# Altium integrated library NXP Semiconductors Automotive MOSFETs.IntLib: 540 symbols (part 15 of 16)
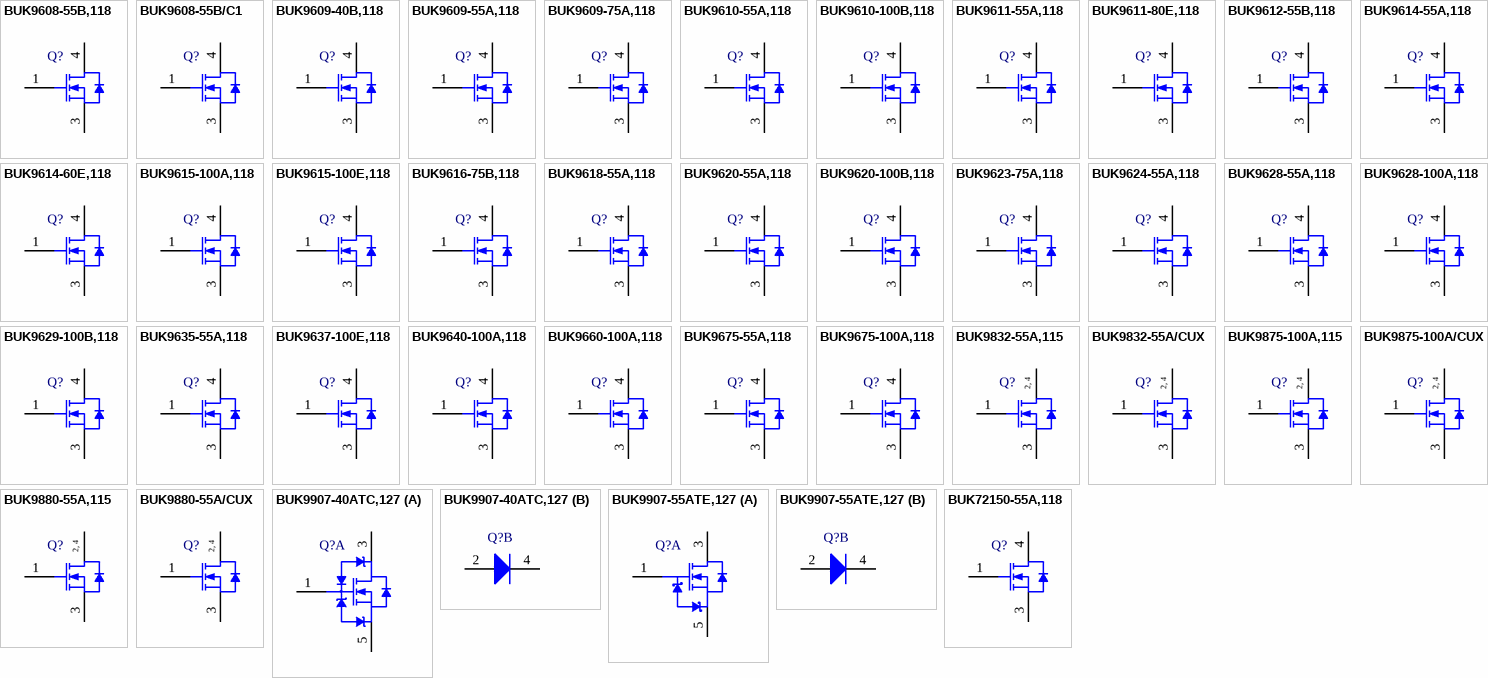
[diagram p28: symbols BUK9608-55B,118 to BUK72150-55A,118]

## BUK9675-100A,118
designator Q?
N-Channel TrenchMOS Logic Level FET, 100 V, 23 A, 3-Pin SOT404, Tape and Reel; Manufacturer: NXP Semiconductors; PartNumber: BUK9675-100A,118; Automotive Qualified: Y; Channel Type: N; ID [max] (A): 23; IDM [max] (A): 91; Packing: Tape & Reel; Qr [typ] (nC): 220; VDS [max] (V): 100; VGSth [typ] (V): 1.5; DatasheetVersion: Rev. 04; PackageVersion: 13-02-25, 02/2013; PackageReference: SOT404; PackageDescription: 3-Pin Plastic Single-ended Surface Mounted Package, Body 10 x 9.6 mm, Pitch 2.54 mm; Supplier 1: Digi-Key; Supplier Part Number 1: 568-9688-2-ND; Supplier 2: Digi-Key; Supplier Part Number 2: 568-9688-1-ND; Supplier 3: Digi-Key; Supplier Part Number 3: 568-9688-6-ND; Supplier 4: Mouser; Supplier Part Number 4: 771-BUK9675-100A118; Mounting Technology: Surface Mount; ComponentLink1Description: Manufacturer URL; ComponentLink1URL: http://www.nxp.com/; ComponentLink2Description: Datasheet; ComponentLink2URL: http://www.nxp.com/documents/data_sheet/BUK9675-100A.pdf; ComponentLink3Description: Package Specification; ComponentLink3URL: http://www.nxp.com/documents/outline_drawing/sot404_po.pdf
footprint NXP-SOT404_N (DPAK, 3-Leads, Body 10.3x9.8mm, Pitch 2.54mm, IPC Medium Density)
footprint NXP-SOT404_L (DPAK, 3-Leads, Body 10.3x9.8mm, Pitch 2.54mm, IPC High Density)
footprint NXP-SOT404_M (DPAK, 3-Leads, Body 10.3x9.8mm, Pitch 2.54mm, IPC Low Density)
pins: 1 G "gate", 3 S "source", 4 D "mounting base; connected to drain"

## BUK9832-55A,115
designator Q?
N-Channel TrenchMOS Logic Level FET, 55 V, 12 A, 4-Pin SOT223, Tape and Reel; Manufacturer: NXP Semiconductors; PartNumber: BUK9832-55A,115; Automotive Qualified: Y; Channel Type: N; ID [max] (A): 12; IDM [max] (A): 47; Packing: Tape & Reel; Qr [typ] (nC): 80; VDS [max] (V): 55; VGSth [typ] (V): 1.5; DatasheetVersion: Rev. 02; PackageVersion: 06-03-16, 03/2006; PackageReference: SOT223; PackageDescription: 4-Pin Small Outline Transistor Package, Body 6.5 x 3.5 mm, Pitch 2.3 mm; Supplier 1: Digi-Key; Supplier Part Number 1: 568-8032-2-ND; Supplier 2: Digi-Key; Supplier Part Number 2: 568-8032-1-ND; Supplier 3: Digi-Key; Supplier Part Number 3: 568-8032-6-ND; Supplier 4: Newark; Supplier Part Number 4: 79R1863; Supplier 5: Newark; Supplier Part Number 5: 70R3625; Supplier 6: Mouser; Supplier Part Number 6: 771-BUK9832-55A115; Mounting Technology: Surface Mount; Code_JEITA: SC-73; ComponentLink1Description: Manufacturer URL; ComponentLink1URL: http://www.nxp.com/; ComponentLink2Description: Datasheet; ComponentLink2URL: http://www.nxp.com/documents/data_sheet/BUK9832-55A.pdf; ComponentLink3Description: Package Specification; ComponentLink3URL: http://www.nxp.com/documents/outline_drawing/sot223_po.pdf
footprint NXP-SOT223_N (SOT223, 4-Leads, Body 6.7x3.7mm, Pitch 2.3mm, IPC Medium Density)
footprint NXP-SOT223_L (SOT223, 4-Leads, Body 6.7x3.7mm, Pitch 2.3mm, IPC High Density)
footprint NXP-SOT223_M (SOT223, 4-Leads, Body 6.7x3.7mm, Pitch 2.3mm, IPC Low Density)
pins: 1 G "gate", 2 D "drain", 3 S "source", 4 D "drain"
text: 2, 4

## BUK9832-55A/CUX
designator Q?
N-Channel TrenchMOS Logic Level FET, 55 V, 12 A, 4-Pin SOT223, Tape and Reel; Manufacturer: NXP Semiconductors; PartNumber: BUK9832-55A/CUX; Automotive Qualified: Y; Channel Type: N; ID [max] (A): 12; IDM [max] (A): 47; Packing: Tape & Reel; Qr [typ] (nC): 80; VDS [max] (V): 55; VGSth [typ] (V): 1.5; DatasheetVersion: Rev. 02; PackageVersion: 06-03-16, 03/2006; PackageReference: SOT223; PackageDescription: 4-Pin Small Outline Transistor Package, Body 6.5 x 3.5 mm, Pitch 2.3 mm; Supplier 1: Mouser; Supplier Part Number 1: N/A; Mounting Technology: Surface Mount; Code_JEITA: SC-73; ComponentLink1Description: Manufacturer URL; ComponentLink1URL: http://www.nxp.com/; ComponentLink2Description: Datasheet; ComponentLink2URL: http://www.nxp.com/documents/data_sheet/BUK9832-55A.pdf; ComponentLink3Description: Package Specification; ComponentLink3URL: http://www.nxp.com/documents/outline_drawing/sot223_po.pdf
footprint NXP-SOT223_N (SOT223, 4-Leads, Body 6.7x3.7mm, Pitch 2.3mm, IPC Medium Density)
footprint NXP-SOT223_L (SOT223, 4-Leads, Body 6.7x3.7mm, Pitch 2.3mm, IPC High Density)
footprint NXP-SOT223_M (SOT223, 4-Leads, Body 6.7x3.7mm, Pitch 2.3mm, IPC Low Density)
pins: 1 G "gate", 2 D "drain", 3 S "source", 4 D "drain"
text: 2, 4

## BUK9875-100A,115
designator Q?
N-Channel TrenchMOS Logic Level FET, 100 V, 7 A, 4-Pin SOT223, Tape and Reel; Manufacturer: NXP Semiconductors; PartNumber: BUK9875-100A,115; Automotive Qualified: Y; Channel Type: N; ID [max] (A): 7; IDM [max] (A): 28; Packing: Tape & Reel; Qr [typ] (nC): 220; VDS [max] (V): 100; VGSth [typ] (V): 1.5; PackageVersion: 06-03-16, 03/2006; PackageReference: SOT223; PackageDescription: 4-Pin Small Outline Transistor Package, Body 6.5 x 3.5 mm, Pitch 2.3 mm; Supplier 1: Digi-Key; Supplier Part Number 1: 568-8033-2-ND; Supplier 2: Digi-Key; Supplier Part Number 2: 568-8033-1-ND; Supplier 3: Digi-Key; Supplier Part Number 3: 568-8033-6-ND; Supplier 4: Newark; Supplier Part Number 4: 70R3627; Supplier 5: Newark; Supplier Part Number 5: 75R4725; Supplier 6: Mouser; Supplier Part Number 6: 771-BUK9875-100A115; Mounting Technology: Surface Mount; Code_JEITA: SC-73; ComponentLink1Description: Manufacturer URL; ComponentLink1URL: http://www.nxp.com/; ComponentLink2Description: Datasheet; ComponentLink2URL: http://www.nxp.com/documents/data_sheet/BUK9875-100A.pdf; ComponentLink3Description: Package Specification; ComponentLink3URL: http://www.nxp.com/documents/outline_drawing/sot223_po.pdf
footprint NXP-SOT223_N (SOT223, 4-Leads, Body 6.7x3.7mm, Pitch 2.3mm, IPC Medium Density)
footprint NXP-SOT223_L (SOT223, 4-Leads, Body 6.7x3.7mm, Pitch 2.3mm, IPC High Density)
footprint NXP-SOT223_M (SOT223, 4-Leads, Body 6.7x3.7mm, Pitch 2.3mm, IPC Low Density)
pins: 1 G "gate", 2 D "drain", 3 S "source", 4 D "drain"
text: 2, 4

## BUK9875-100A/CUX
designator Q?
N-Channel TrenchMOS Logic Level FET, 100 V, 7 A, 4-Pin SOT223, Tape and Reel; Manufacturer: NXP Semiconductors; PartNumber: BUK9875-100A/CUX; Automotive Qualified: Y; Channel Type: N; ID [max] (A): 7; IDM [max] (A): 28; Packing: Tape & Reel; Qr [typ] (nC): 220; VDS [max] (V): 100; VGSth [typ] (V): 1.5; PackageVersion: 06-03-16, 03/2006; PackageReference: SOT223; PackageDescription: 4-Pin Small Outline Transistor Package, Body 6.5 x 3.5 mm, Pitch 2.3 mm; Supplier 1: Mouser; Supplier Part Number 1: N/A; Mounting Technology: Surface Mount; Code_JEITA: SC-73; ComponentLink1Description: Manufacturer URL; ComponentLink1URL: http://www.nxp.com/; ComponentLink2Description: Datasheet; ComponentLink2URL: http://www.nxp.com/documents/data_sheet/BUK9875-100A.pdf; ComponentLink3Description: Package Specification; ComponentLink3URL: http://www.nxp.com/documents/outline_drawing/sot223_po.pdf
footprint NXP-SOT223_N (SOT223, 4-Leads, Body 6.7x3.7mm, Pitch 2.3mm, IPC Medium Density)
footprint NXP-SOT223_L (SOT223, 4-Leads, Body 6.7x3.7mm, Pitch 2.3mm, IPC High Density)
footprint NXP-SOT223_M (SOT223, 4-Leads, Body 6.7x3.7mm, Pitch 2.3mm, IPC Low Density)
pins: 1 G "gate", 2 D "drain", 3 S "source", 4 D "drain"
text: 2, 4

## BUK9880-55A,115
designator Q?
N-Channel TrenchMOS Logic Level FET, 55 V, 7 A, 4-Pin SOT223, Tape and Reel; Manufacturer: NXP Semiconductors; PartNumber: BUK9880-55A,115; Automotive Qualified: Y; Channel Type: N; ID [max] (A): 7; IDM [max] (A): 30; Packing: Tape & Reel; Qr [typ] (nC): 60; VDS [max] (V): 55; VGSth [typ] (V): 1.5; PackageVersion: 06-03-16, 03/2006; PackageReference: SOT223; PackageDescription: 4-Pin Small Outline Transistor Package, Body 6.5 x 3.5 mm, Pitch 2.3 mm; Supplier 1: Digi-Key; Supplier Part Number 1: 568-9715-2-ND; Supplier 2: Digi-Key; Supplier Part Number 2: 568-9715-1-ND; Supplier 3: Digi-Key; Supplier Part Number 3: 568-9715-6-ND; Supplier 4: Newark; Supplier Part Number 4: 70R3629; Supplier 5: Newark; Supplier Part Number 5: 79R1865; Supplier 6: Mouser; Supplier Part Number 6: 771-BUK9880-55A115; Mounting Technology: Surface Mount; Code_JEITA: SC-73; ComponentLink1Description: Manufacturer URL; ComponentLink1URL: http://www.nxp.com/; ComponentLink2Description: Datasheet; ComponentLink2URL: http://www.nxp.com/documents/data_sheet/BUK9880-55A.pdf; ComponentLink3Description: Package Specification; ComponentLink3URL: http://www.nxp.com/documents/outline_drawing/sot223_po.pdf
footprint NXP-SOT223_N (SOT223, 4-Leads, Body 6.7x3.7mm, Pitch 2.3mm, IPC Medium Density)
footprint NXP-SOT223_L (SOT223, 4-Leads, Body 6.7x3.7mm, Pitch 2.3mm, IPC High Density)
footprint NXP-SOT223_M (SOT223, 4-Leads, Body 6.7x3.7mm, Pitch 2.3mm, IPC Low Density)
pins: 1 G "gate", 2 D "drain", 3 S "source", 4 D "drain"
text: 2, 4

## BUK9880-55A/CUX
designator Q?
N-Channel TrenchMOS Logic Level FET, 55 V, 7 A, 4-Pin SOT223, Tape and Reel; Manufacturer: NXP Semiconductors; PartNumber: BUK9880-55A/CUX; Automotive Qualified: Y; Channel Type: N; ID [max] (A): 7; IDM [max] (A): 30; Packing: Tape & Reel; Qr [typ] (nC): 60; VDS [max] (V): 55; VGSth [typ] (V): 1.5; PackageVersion: 06-03-16, 03/2006; PackageReference: SOT223; PackageDescription: 4-Pin Small Outline Transistor Package, Body 6.5 x 3.5 mm, Pitch 2.3 mm; Supplier 1: Mouser; Supplier Part Number 1: N/A; Mounting Technology: Surface Mount; Code_JEITA: SC-73; ComponentLink1Description: Manufacturer URL; ComponentLink1URL: http://www.nxp.com/; ComponentLink2Description: Datasheet; ComponentLink2URL: http://www.nxp.com/documents/data_sheet/BUK9880-55A.pdf; ComponentLink3Description: Package Specification; ComponentLink3URL: http://www.nxp.com/documents/outline_drawing/sot223_po.pdf
footprint NXP-SOT223_N (SOT223, 4-Leads, Body 6.7x3.7mm, Pitch 2.3mm, IPC Medium Density)
footprint NXP-SOT223_L (SOT223, 4-Leads, Body 6.7x3.7mm, Pitch 2.3mm, IPC High Density)
footprint NXP-SOT223_M (SOT223, 4-Leads, Body 6.7x3.7mm, Pitch 2.3mm, IPC Low Density)
pins: 1 G "gate", 2 D "drain", 3 S "source", 4 D "drain"
text: 2, 4

## BUK9907-40ATC,127
designator Q?
N-Channel TrenchPLUS Logic Level FET, 40 V, 5-Pin SOT263B, Rail; Manufacturer: NXP Semiconductors; PartNumber: BUK9907-40ATC,127; Automotive Qualified: Y; Channel Type: N; IDM [max] (A): 560; Qr [typ] (nC): 250; VDS [max] (V): 40; VGSth [typ] (V): 1.5; DatasheetVersion: Rev. 02; PackageVersion: 01-01-11, 01/2001; PackageReference: SOT263B; PackageDescription: 5-Pin Flange Mount, Vertical Straight Lead, Body 4.3 x 10 mm, Pitch 1.7 mm; Supplier 1: Digi-Key; Supplier Part Number 1: 568-9750-5-ND; Supplier 2: Mouser; Supplier Part Number 2: 771-BUK9907-40ATC127; Packing: Rail; Mounting Technology: Through Hole; Code_JEDEC: 5-lead TO-220; ComponentLink1Description: Manufacturer URL; ComponentLink1URL: http://www.nxp.com/; ComponentLink2Description: Datasheet; ComponentLink2URL: http://www.nxp.com/documents/data_sheet/BUK9907-40ATC.pdf; ComponentLink3Description: Package Specification; ComponentLink3URL: http://www.nxp.com/documents/outline_drawing/sot263b_po.pdf
footprint NXP-SOT263B (FM, 5-Leads, Body 10.3x4.5mm, Pitch 1.7mm)
part A pins: 1 G "gate", 3 D "drain", 5 S "source"
part B pins: 2 A "anode", 4 K "cathode"

## BUK9907-55ATE,127
designator Q?
N-Channel TrenchPLUS Logic Level FET, 55 V, 5-Pin SOT263B, Rail; Manufacturer: NXP Semiconductors; PartNumber: BUK9907-55ATE,127; Automotive Qualified: Y; Channel Type: N; IDM [max] (A): 560; Qr [typ] (nC): 250; VDS [max] (V): 55; VGSth [typ] (V): 1.5; DatasheetVersion: Rev. 02; PackageVersion: 01-01-11, 01/2001; PackageReference: SOT263B; PackageDescription: 5-Pin Flange Mount, Vertical Straight Lead, Body 4.3 x 10 mm, Pitch 1.7 mm; Supplier 1: Digi-Key; Supplier Part Number 1: 568-9761-5-ND; Supplier 2: Mouser; Supplier Part Number 2: 771-BUK9907-55ATE127; Packing: Rail; Mounting Technology: Through Hole; Code_JEDEC: 5-lead TO-220; ComponentLink1Description: Manufacturer URL; ComponentLink1URL: http://www.nxp.com/; ComponentLink2Description: Datasheet; ComponentLink2URL: http://www.nxp.com/documents/data_sheet/BUK9907-55ATE.pdf; ComponentLink3Description: Package Specification; ComponentLink3URL: http://www.nxp.com/documents/outline_drawing/sot263b_po.pdf
footprint NXP-SOT263B (FM, 5-Leads, Body 10.3x4.5mm, Pitch 1.7mm)
part A pins: 1 G "gate", 3 D "drain", 5 S "source"
part B pins: 2 A "anode", 4 K "cathode"

## BUK72150-55A,118
designator Q?
N-Channel TrenchMOS Standard Level FET, 55 V, 11 A, 3-Pin SOT428, Tape and Reel; Manufacturer: NXP Semiconductors; PartNumber: BUK72150-55A,118; Automotive Qualified: Y; Channel Type: N; ID [max] (A): 11; IDM [max] (A): 44; Packing: Tape & Reel; Qr [typ] (nC): 50; VDS [max] (V): 55; VGSth [typ] (V): 3; DatasheetVersion: Rev. 03; PackageVersion: 14-06-10, 06/2014; PackageReference: SOT428; PackageDescription: 3-Pin Plastic Single-ended Surface Mounted Package, Body 6.1 x 6.6 mm, Pitch 2.285 mm; Supplier 1: Digi-Key; Supplier Part Number 1: 568-9634-2-ND; Supplier 2: Digi-Key; Supplier Part Number 2: 568-9634-1-ND; Supplier 3: Digi-Key; Supplier Part Number 3: 568-9634-6-ND; Supplier 4: Mouser; Supplier Part Number 4: 771-BUK72150-55A118; Mounting Technology: Surface Mount; Code_JEITA: SC-63; Code_JEDEC: TO-252; ComponentLink1Description: Manufacturer URL; ComponentLink1URL: http://www.nxp.com/; ComponentLink2Description: Datasheet; ComponentLink2URL: http://www.nxp.com/documents/data_sheet/BUK72150-55A.pdf; ComponentLink3Description: Package Specification; ComponentLink3URL: http://www.nxp.com/documents/outline_drawing/sot428_po.pdf
footprint NXP-SOT428_N (DPAK, 3-Leads, Body 6.75x6.22mm, Pitch 2.29mm, IPC Medium Density)
footprint NXP-SOT428_L (DPAK, 3-Leads, Body 6.75x6.22mm, Pitch 2.29mm, IPC High Density)
footprint NXP-SOT428_M (DPAK, 3-Leads, Body 6.75x6.22mm, Pitch 2.29mm, IPC Low Density)
pins: 1 G "gate", 3 S "source", 4 D "mounting base; connected to drain"

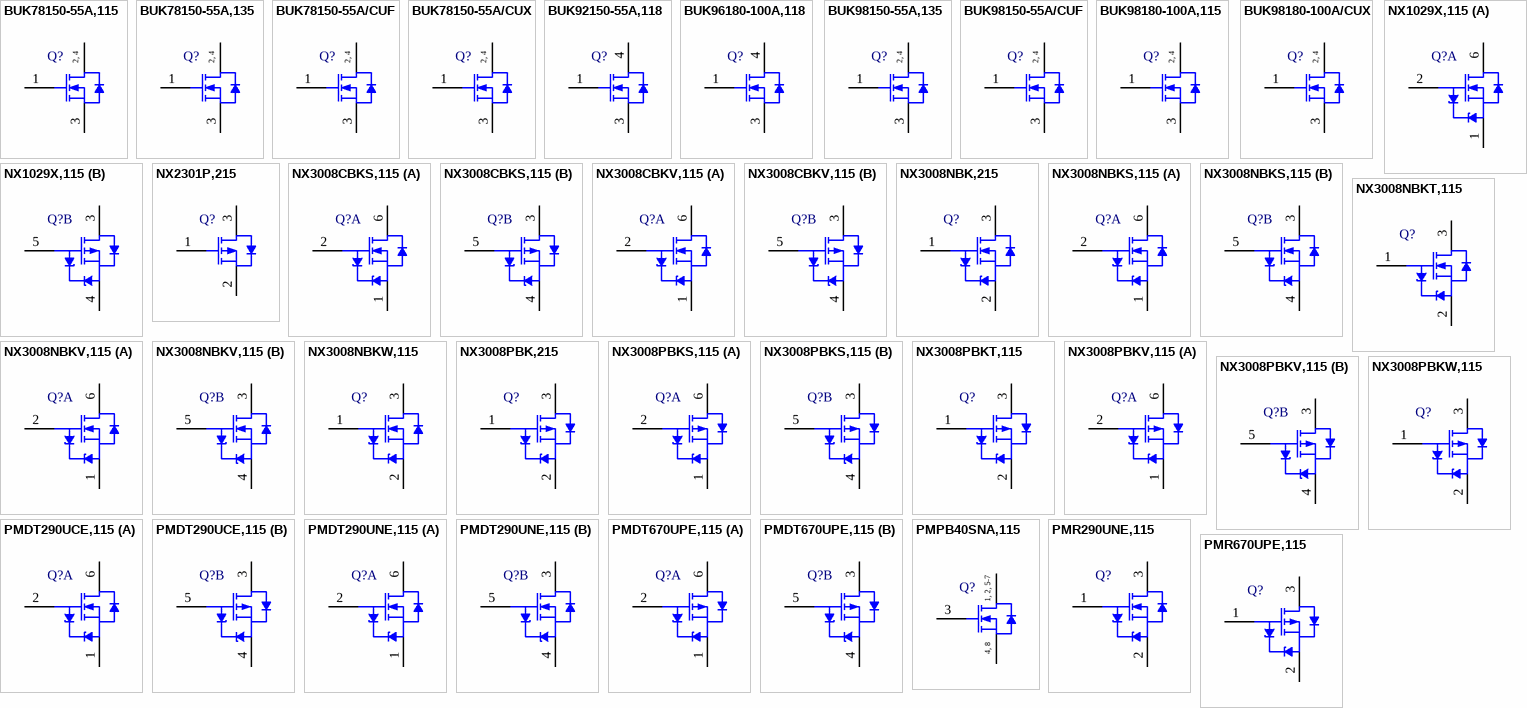
[diagram p14: symbols BUK78150-55A,115 to PMR670UPE,115]

## BUK78150-55A,115
designator Q?
N-Channel TrenchMOS Standard Level FET, 55 V, 5.5 A, 4-Pin SOT223, Tape and Reel; Manufacturer: NXP Semiconductors; PartNumber: BUK78150-55A,115; Automotive Qualified: Y; Channel Type: N; ID [max] (A): 5.5; IDM [max] (A): 22; Packing: Tape & Reel; Qr [typ] (nC): 50; VDS [max] (V): 55; VGSth [typ] (V): 3; DatasheetVersion: Rev. 02; PackageVersion: 06-03-16, 03/2006; PackageReference: SOT223; PackageDescription: 4-Pin Small Outline Transistor Package, Body 6.5 x 3.5 mm, Pitch 2.3 mm; Supplier 1: Digi-Key; Supplier Part Number 1: 568-9711-2-ND; Supplier 2: Digi-Key; Supplier Part Number 2: 568-9711-1-ND; Supplier 3: Digi-Key; Supplier Part Number 3: 568-9711-6-ND; Supplier 4: Newark; Supplier Part Number 4: 79R1850; Supplier 5: Mouser; Supplier Part Number 5: 771-BUK78150-55A115; Mounting Technology: Surface Mount; Code_JEITA: SC-73; ComponentLink1Description: Manufacturer URL; ComponentLink1URL: http://www.nxp.com/; ComponentLink2Description: Datasheet; ComponentLink2URL: http://www.nxp.com/documents/data_sheet/BUK78150-55A.pdf; ComponentLink3Description: Package Specification; ComponentLink3URL: http://www.nxp.com/documents/outline_drawing/sot223_po.pdf
footprint NXP-SOT223_N (SOT223, 4-Leads, Body 6.7x3.7mm, Pitch 2.3mm, IPC Medium Density)
footprint NXP-SOT223_L (SOT223, 4-Leads, Body 6.7x3.7mm, Pitch 2.3mm, IPC High Density)
footprint NXP-SOT223_M (SOT223, 4-Leads, Body 6.7x3.7mm, Pitch 2.3mm, IPC Low Density)
pins: 1 G "gate", 2 D "drain", 3 S "source", 4 D "drain"
text: 2, 4

## BUK78150-55A,135
designator Q?
N-Channel TrenchMOS Standard Level FET, 55 V, 5.5 A, 4-Pin SOT223, Tape and Reel; Manufacturer: NXP Semiconductors; PartNumber: BUK78150-55A,135; Automotive Qualified: Y; Channel Type: N; ID [max] (A): 5.5; IDM [max] (A): 22; Packing: Tape & Reel; Qr [typ] (nC): 50; VDS [max] (V): 55; VGSth [typ] (V): 3; DatasheetVersion: Rev. 02; PackageVersion: 06-03-16, 03/2006; PackageReference: SOT223; PackageDescription: 4-Pin Small Outline Transistor Package, Body 6.5 x 3.5 mm, Pitch 2.3 mm; Supplier 1: Digi-Key; Supplier Part Number 1: BUK78150-55A,135-ND; Supplier 2: Mouser; Supplier Part Number 2: 771-BUK78150-55A135; Mounting Technology: Surface Mount; Code_JEITA: SC-73; ComponentLink1Description: Manufacturer URL; ComponentLink1URL: http://www.nxp.com/; ComponentLink2Description: Datasheet; ComponentLink2URL: http://www.nxp.com/documents/data_sheet/BUK78150-55A.pdf; ComponentLink3Description: Package Specification; ComponentLink3URL: http://www.nxp.com/documents/outline_drawing/sot223_po.pdf
footprint NXP-SOT223_N (SOT223, 4-Leads, Body 6.7x3.7mm, Pitch 2.3mm, IPC Medium Density)
footprint NXP-SOT223_L (SOT223, 4-Leads, Body 6.7x3.7mm, Pitch 2.3mm, IPC High Density)
footprint NXP-SOT223_M (SOT223, 4-Leads, Body 6.7x3.7mm, Pitch 2.3mm, IPC Low Density)
pins: 1 G "gate", 2 D "drain", 3 S "source", 4 D "drain"
text: 2, 4

## BUK78150-55A/CUF
designator Q?
N-Channel TrenchMOS Standard Level FET, 55 V, 5.5 A, 4-Pin SOT223, Tape and Reel; Manufacturer: NXP Semiconductors; PartNumber: BUK78150-55A/CUF; Automotive Qualified: Y; Channel Type: N; ID [max] (A): 5.5; IDM [max] (A): 22; Packing: Tape & Reel; Qr [typ] (nC): 50; VDS [max] (V): 55; VGSth [typ] (V): 3; DatasheetVersion: Rev. 02; PackageVersion: 06-03-16, 03/2006; PackageReference: SOT223; PackageDescription: 4-Pin Small Outline Transistor Package, Body 6.5 x 3.5 mm, Pitch 2.3 mm; Supplier 1: Mouser; Supplier Part Number 1: N/A; Mounting Technology: Surface Mount; Code_JEITA: SC-73; ComponentLink1Description: Manufacturer URL; ComponentLink1URL: http://www.nxp.com/; ComponentLink2Description: Datasheet; ComponentLink2URL: http://www.nxp.com/documents/data_sheet/BUK78150-55A.pdf; ComponentLink3Description: Package Specification; ComponentLink3URL: http://www.nxp.com/documents/outline_drawing/sot223_po.pdf
footprint NXP-SOT223_N (SOT223, 4-Leads, Body 6.7x3.7mm, Pitch 2.3mm, IPC Medium Density)
footprint NXP-SOT223_L (SOT223, 4-Leads, Body 6.7x3.7mm, Pitch 2.3mm, IPC High Density)
footprint NXP-SOT223_M (SOT223, 4-Leads, Body 6.7x3.7mm, Pitch 2.3mm, IPC Low Density)
pins: 1 G "gate", 2 D "drain", 3 S "source", 4 D "drain"
text: 2, 4

## BUK78150-55A/CUX
designator Q?
N-Channel TrenchMOS Standard Level FET, 55 V, 5.5 A, 4-Pin SOT223, Tape and Reel; Manufacturer: NXP Semiconductors; PartNumber: BUK78150-55A/CUX; Automotive Qualified: Y; Channel Type: N; ID [max] (A): 5.5; IDM [max] (A): 22; Packing: Tape & Reel; Qr [typ] (nC): 50; VDS [max] (V): 55; VGSth [typ] (V): 3; DatasheetVersion: Rev. 02; PackageVersion: 06-03-16, 03/2006; PackageReference: SOT223; PackageDescription: 4-Pin Small Outline Transistor Package, Body 6.5 x 3.5 mm, Pitch 2.3 mm; Supplier 1: Mouser; Supplier Part Number 1: N/A; Mounting Technology: Surface Mount; Code_JEITA: SC-73; ComponentLink1Description: Manufacturer URL; ComponentLink1URL: http://www.nxp.com/; ComponentLink2Description: Datasheet; ComponentLink2URL: http://www.nxp.com/documents/data_sheet/BUK78150-55A.pdf; ComponentLink3Description: Package Specification; ComponentLink3URL: http://www.nxp.com/documents/outline_drawing/sot223_po.pdf
footprint NXP-SOT223_N (SOT223, 4-Leads, Body 6.7x3.7mm, Pitch 2.3mm, IPC Medium Density)
footprint NXP-SOT223_L (SOT223, 4-Leads, Body 6.7x3.7mm, Pitch 2.3mm, IPC High Density)
footprint NXP-SOT223_M (SOT223, 4-Leads, Body 6.7x3.7mm, Pitch 2.3mm, IPC Low Density)
pins: 1 G "gate", 2 D "drain", 3 S "source", 4 D "drain"
text: 2, 4

## BUK92150-55A,118
designator Q?
N-Channel TrenchMOS Logic Level FET, 55 V, 11 A, 3-Pin SOT428, Tape and Reel; Manufacturer: NXP Semiconductors; PartNumber: BUK92150-55A,118; Automotive Qualified: Y; Channel Type: N; ID [max] (A): 11; IDM [max] (A): 44; Packing: Tape & Reel; Qr [typ] (nC): 26; VDS [max] (V): 55; VGSth [typ] (V): 1.5; PackageVersion: 14-06-10, 06/2014; PackageReference: SOT428; PackageDescription: 3-Pin Plastic Single-ended Surface Mounted Package, Body 6.1 x 6.6 mm, Pitch 2.285 mm; Supplier 1: Digi-Key; Supplier Part Number 1: 568-4281-2-ND; Supplier 2: Digi-Key; Supplier Part Number 2: 568-4281-1-ND; Supplier 3: Digi-Key; Supplier Part Number 3: 568-4281-6-ND; Supplier 4: Newark; Supplier Part Number 4: 70R3535; Supplier 5: Mouser; Supplier Part Number 5: 771-BUK92150-55A118; Mounting Technology: Surface Mount; Code_JEITA: SC-63; Code_JEDEC: TO-252; ComponentLink1Description: Manufacturer URL; ComponentLink1URL: http://www.nxp.com/; ComponentLink2Description: Datasheet; ComponentLink2URL: http://www.nxp.com/documents/data_sheet/BUK92150-55A.pdf; ComponentLink3Description: Package Specification; ComponentLink3URL: http://www.nxp.com/documents/outline_drawing/sot428_po.pdf
footprint NXP-SOT428_N (DPAK, 3-Leads, Body 6.75x6.22mm, Pitch 2.29mm, IPC Medium Density)
footprint NXP-SOT428_L (DPAK, 3-Leads, Body 6.75x6.22mm, Pitch 2.29mm, IPC High Density)
footprint NXP-SOT428_M (DPAK, 3-Leads, Body 6.75x6.22mm, Pitch 2.29mm, IPC Low Density)
pins: 1 G "gate", 3 S "source", 4 D "mounting base; connected to drain"

## BUK96180-100A,118
designator Q?
N-Channel TrenchMOS Logic Level FET, 100 V, 11 A, 3-Pin SOT404, Tape and Reel; Manufacturer: NXP Semiconductors; PartNumber: BUK96180-100A,118; Automotive Qualified: Y; Channel Type: N; ID [max] (A): 11; IDM [max] (A): 44; Packing: Tape & Reel; Qr [typ] (nC): 130; VDS [max] (V): 100; VGSth [typ] (V): 1.5; DatasheetVersion: Rev. 02; PackageVersion: 13-02-25, 02/2013; PackageReference: SOT404; PackageDescription: 3-Pin Plastic Single-ended Surface Mounted Package, Body 10 x 9.6 mm, Pitch 2.54 mm; Supplier 1: Digi-Key; Supplier Part Number 1: 568-9680-2-ND; Supplier 2: Digi-Key; Supplier Part Number 2: 568-9680-1-ND; Supplier 3: Digi-Key; Supplier Part Number 3: 568-9680-6-ND; Supplier 4: Newark; Supplier Part Number 4: 79R1860; Supplier 5: Mouser; Supplier Part Number 5: 771-BUK96180-100A118; Mounting Technology: Surface Mount; ComponentLink1Description: Manufacturer URL; ComponentLink1URL: http://www.nxp.com/; ComponentLink2Description: Datasheet; ComponentLink2URL: http://www.nxp.com/documents/data_sheet/BUK96180-100A.pdf; ComponentLink3Description: Package Specification; ComponentLink3URL: http://www.nxp.com/documents/outline_drawing/sot404_po.pdf
footprint NXP-SOT404_N (DPAK, 3-Leads, Body 10.3x9.8mm, Pitch 2.54mm, IPC Medium Density)
footprint NXP-SOT404_L (DPAK, 3-Leads, Body 10.3x9.8mm, Pitch 2.54mm, IPC High Density)
footprint NXP-SOT404_M (DPAK, 3-Leads, Body 10.3x9.8mm, Pitch 2.54mm, IPC Low Density)
pins: 1 G "gate", 3 S "source", 4 D "mounting base; connected to drain"

## BUK98150-55A,135
designator Q?
N-Channel TrenchMOS Logic Level FET, 55 V, 5.5 A, 4-Pin SOT223, Tape and Reel; Manufacturer: NXP Semiconductors; PartNumber: BUK98150-55A,135; Automotive Qualified: Y; Channel Type: N; ID [max] (A): 5.5; IDM [max] (A): 22; Packing: Tape & Reel; Qr [typ] (nC): 30; VDS [max] (V): 55; VGSth [typ] (V): 1.5; PackageVersion: 06-03-16, 03/2006; PackageReference: SOT223; PackageDescription: 4-Pin Small Outline Transistor Package, Body 6.5 x 3.5 mm, Pitch 2.3 mm; Supplier 1: Digi-Key; Supplier Part Number 1: 568-8212-2-ND; Supplier 2: Digi-Key; Supplier Part Number 2: 568-8212-1-ND; Supplier 3: Digi-Key; Supplier Part Number 3: 568-8212-6-ND; Supplier 4: Farnell; Supplier Part Number 4: 2081172; Supplier 5: Newark; Supplier Part Number 5: 75R4724; Supplier 6: Mouser; Supplier Part Number 6: 771-BUK98150-55A/T3; Mounting Technology: Surface Mount; Code_JEITA: SC-73; ComponentLink1Description: Manufacturer URL; ComponentLink1URL: http://www.nxp.com/; ComponentLink2Description: Datasheet; ComponentLink2URL: http://www.nxp.com/documents/data_sheet/BUK98150-55A.pdf; ComponentLink3Description: Package Specification; ComponentLink3URL: http://www.nxp.com/documents/outline_drawing/sot223_po.pdf
footprint NXP-SOT223_N (SOT223, 4-Leads, Body 6.7x3.7mm, Pitch 2.3mm, IPC Medium Density)
footprint NXP-SOT223_L (SOT223, 4-Leads, Body 6.7x3.7mm, Pitch 2.3mm, IPC High Density)
footprint NXP-SOT223_M (SOT223, 4-Leads, Body 6.7x3.7mm, Pitch 2.3mm, IPC Low Density)
pins: 1 G "gate", 2 D "drain", 3 S "source", 4 D "drain"
text: 2, 4

## BUK98150-55A/CUF
designator Q?
N-Channel TrenchMOS Logic Level FET, 55 V, 5.5 A, 4-Pin SOT223, Tape and Reel; Manufacturer: NXP Semiconductors; PartNumber: BUK98150-55A/CUF; Automotive Qualified: Y; Channel Type: N; ID [max] (A): 5.5; IDM [max] (A): 22; Packing: Tape & Reel; Qr [typ] (nC): 30; VDS [max] (V): 55; VGSth [typ] (V): 1.5; PackageVersion: 06-03-16, 03/2006; PackageReference: SOT223; PackageDescription: 4-Pin Small Outline Transistor Package, Body 6.5 x 3.5 mm, Pitch 2.3 mm; Supplier 1: Mouser; Supplier Part Number 1: N/A; Mounting Technology: Surface Mount; Code_JEITA: SC-73; ComponentLink1Description: Manufacturer URL; ComponentLink1URL: http://www.nxp.com/; ComponentLink2Description: Datasheet; ComponentLink2URL: http://www.nxp.com/documents/data_sheet/BUK98150-55A.pdf; ComponentLink3Description: Package Specification; ComponentLink3URL: http://www.nxp.com/documents/outline_drawing/sot223_po.pdf
footprint NXP-SOT223_N (SOT223, 4-Leads, Body 6.7x3.7mm, Pitch 2.3mm, IPC Medium Density)
footprint NXP-SOT223_L (SOT223, 4-Leads, Body 6.7x3.7mm, Pitch 2.3mm, IPC High Density)
footprint NXP-SOT223_M (SOT223, 4-Leads, Body 6.7x3.7mm, Pitch 2.3mm, IPC Low Density)
pins: 1 G "gate", 2 D "drain", 3 S "source", 4 D "drain"
text: 2, 4

## BUK98180-100A,115
designator Q?
N-Channel TrenchMOS Logic Level FET, 100 V, 4.6 A, 4-Pin SOT223, Tape and Reel; Manufacturer: NXP Semiconductors; PartNumber: BUK98180-100A,115; Automotive Qualified: Y; Channel Type: N; ID [max] (A): 4.6; IDM [max] (A): 18; Packing: Tape & Reel; Qr [typ] (nC): 130; VDS [max] (V): 100; VGSth [typ] (V): 1.5; DatasheetVersion: Rev. 03; PackageVersion: 06-03-16, 03/2006; PackageReference: SOT223; PackageDescription: 4-Pin Small Outline Transistor Package, Body 6.5 x 3.5 mm, Pitch 2.3 mm; Supplier 1: Digi-Key; Supplier Part Number 1: 568-9714-2-ND; Supplier 2: Digi-Key; Supplier Part Number 2: 568-9714-1-ND; Supplier 3: Digi-Key; Supplier Part Number 3: 568-9714-6-ND; Supplier 4: Newark; Supplier Part Number 4: 79R1862; Supplier 5: Mouser; Supplier Part Number 5: 771-BUK98180-100A115; Mounting Technology: Surface Mount; Code_JEITA: SC-73; ComponentLink1Description: Manufacturer URL; ComponentLink1URL: http://www.nxp.com/; ComponentLink2Description: Datasheet; ComponentLink2URL: http://www.nxp.com/documents/data_sheet/BUK98180-100A.pdf; ComponentLink3Description: Package Specification; ComponentLink3URL: http://www.nxp.com/documents/outline_drawing/sot223_po.pdf
footprint NXP-SOT223_N (SOT223, 4-Leads, Body 6.7x3.7mm, Pitch 2.3mm, IPC Medium Density)
footprint NXP-SOT223_L (SOT223, 4-Leads, Body 6.7x3.7mm, Pitch 2.3mm, IPC High Density)
footprint NXP-SOT223_M (SOT223, 4-Leads, Body 6.7x3.7mm, Pitch 2.3mm, IPC Low Density)
pins: 1 G "gate", 2 D "drain", 3 S "source", 4 D "drain"
text: 2, 4

## BUK98180-100A/CUX
designator Q?
N-Channel TrenchMOS Logic Level FET, 100 V, 4.6 A, 4-Pin SOT223, Tape and Reel; Manufacturer: NXP Semiconductors; PartNumber: BUK98180-100A/CUX; Automotive Qualified: Y; Channel Type: N; ID [max] (A): 4.6; IDM [max] (A): 18; Packing: Tape & Reel; Qr [typ] (nC): 130; VDS [max] (V): 100; VGSth [typ] (V): 1.5; DatasheetVersion: Rev. 03; PackageVersion: 06-03-16, 03/2006; PackageReference: SOT223; PackageDescription: 4-Pin Small Outline Transistor Package, Body 6.5 x 3.5 mm, Pitch 2.3 mm; Supplier 1: Mouser; Supplier Part Number 1: N/A; Mounting Technology: Surface Mount; Code_JEITA: SC-73; ComponentLink1Description: Manufacturer URL; ComponentLink1URL: http://www.nxp.com/; ComponentLink2Description: Datasheet; ComponentLink2URL: http://www.nxp.com/documents/data_sheet/BUK98180-100A.pdf; ComponentLink3Description: Package Specification; ComponentLink3URL: http://www.nxp.com/documents/outline_drawing/sot223_po.pdf
footprint NXP-SOT223_N (SOT223, 4-Leads, Body 6.7x3.7mm, Pitch 2.3mm, IPC Medium Density)
footprint NXP-SOT223_L (SOT223, 4-Leads, Body 6.7x3.7mm, Pitch 2.3mm, IPC High Density)
footprint NXP-SOT223_M (SOT223, 4-Leads, Body 6.7x3.7mm, Pitch 2.3mm, IPC Low Density)
pins: 1 G "gate", 2 D "drain", 3 S "source", 4 D "drain"
text: 2, 4

## NX1029X,115
designator Q?
N/P-Channel Trench MOSFET, 60 / -50 V, 330 / -170 mA, -55 to 150 degC, 6-Pin SOT666, Tape and Reel; Manufacturer: NXP Semiconductors; PartNumber: NX1029X,115; Automotive Qualified: Y; Channel Type: N/P; Packing: Tape & Reel; DatasheetVersion: Rev. 1; PackageVersion: 06-03-16, 03/2006; PackageReference: SOT666; PackageDescription: 6-Pin Small Outline Transistor Package, Body 1.6 x 1.2 mm, Pitch 0.5 mm; Supplier 1: Digi-Key; Supplier Part Number 1: 568-10494-2-ND; Supplier 2: Digi-Key; Supplier Part Number 2: 568-10494-1-ND; Supplier 3: Digi-Key; Supplier Part Number 3: 568-10494-6-ND; Supplier 4: Newark; Supplier Part Number 4: 54T9339; Supplier 5: Mouser; Supplier Part Number 5: 771-NX1029X115; Mounting Technology: Surface Mount; ComponentLink1Description: Manufacturer URL; ComponentLink1URL: http://www.nxp.com/; ComponentLink2Description: Datasheet; ComponentLink2URL: http://www.nxp.com/documents/data_sheet/NX1029X.pdf; ComponentLink3Description: Package Specification; ComponentLink3URL: http://www.nxp.com/documents/outline_drawing/sot666_po.pdf
footprint NXP-SOT666_N (SOT23, 6-Leads, Body 1.7x1.3mm, Pitch 0.5mm, IPC Medium Density)
footprint NXP-SOT666_L (SOT23, 6-Leads, Body 1.7x1.3mm, Pitch 0.5mm, IPC High Density)
footprint NXP-SOT666_M (SOT23, 6-Leads, Body 1.7x1.3mm, Pitch 0.5mm, IPC Low Density)
part A pins: 1 S1 "source TR1", 2 G1 "gate TR1", 6 D1 "drain TR1"
part B pins: 3 D2 "drain TR2", 4 S2 "source TR2", 5 G2 "gate TR2"

## NX2301P,215
designator Q?
P-Channel Trench MOSFET, -20 V, -2 A, -55 to 150 degC, 3-Pin SOT23, Tape and Reel; Manufacturer: NXP Semiconductors; PartNumber: NX2301P,215; Automotive Qualified: Y; Channel Type: P; IDM [max] (A): -6; Packing: Tape & Reel; VGSth [typ] (V): -0.75; DatasheetVersion: Rev. 1; PackageVersion: 06-03-16, 03/2006; PackageReference: SOT23; PackageDescription: 3-Pin Small Outline Transistor Package, Body 2.9 x 1.3 mm, Pitch 0.95 mm; Supplier 1: Digi-Key; Supplier Part Number 1: 568-10314-2-ND; Supplier 2: Digi-Key; Supplier Part Number 2: 568-10314-1-ND; Supplier 3: Digi-Key; Supplier Part Number 3: 568-10314-6-ND; Supplier 4: Newark; Supplier Part Number 4: 54T9351; Supplier 5: Mouser; Supplier Part Number 5: 771-NX2301P215; ID [max] (A): -2; VDS [max] (V): -20; Mounting Technology: Surface Mount; Code_JEDEC: TO-236AB; ComponentLink1Description: Manufacturer URL; ComponentLink1URL: http://www.nxp.com/; ComponentLink2Description: Datasheet; ComponentLink2URL: http://www.nxp.com/documents/data_sheet/NX2301P.pdf; ComponentLink3Description: Package Specification; ComponentLink3URL: http://www.nxp.com/documents/outline_drawing/sot023_po.pdf
footprint NXP-SOT23_N (SOT23, 3-Leads, Body 3x1.4mm, Pitch 0.95mm, IPC Medium Density)
footprint NXP-SOT23_L (SOT23, 3-Leads, Body 3x1.4mm, Pitch 0.95mm, IPC High Density)
footprint NXP-SOT23_M (SOT23, 3-Leads, Body 3x1.4mm, Pitch 0.95mm, IPC Low Density)
pins: 1 G "gate", 2 S "source", 3 D "drain"

## NX3008CBKS,115
designator Q?
N/P-Channel Trench MOSFET, 30 / -30 V, 350 / -200 mA, -55 to 150 degC, 6-Pin SOT363, Tape and Reel; Manufacturer: NXP Semiconductors; PartNumber: NX3008CBKS,115; Automotive Qualified: Y; Channel Type: N/P; Packing: Tape & Reel; DatasheetVersion: Rev. 1; PackageVersion: 06-03-16, 03/2006; PackageReference: SOT363; PackageDescription: 6-Pin Small Outline Transistor Package, Body 2 x 1.25 mm, Pitch 0.65 mm; Supplier 1: Digi-Key; Supplier Part Number 1: 568-10495-2-ND; Supplier 2: Digi-Key; Supplier Part Number 2: 568-10495-1-ND; Supplier 3: Digi-Key; Supplier Part Number 3: 568-10495-6-ND; Supplier 4: Mouser; Supplier Part Number 4: 771-NX3008CBKS,115; Mounting Technology: Surface Mount; Code_JEITA: SC-88; ComponentLink1Description: Manufacturer URL; ComponentLink1URL: http://www.nxp.com/; ComponentLink2Description: Datasheet; ComponentLink2URL: http://www.nxp.com/documents/data_sheet/NX3008CBKS.pdf; ComponentLink3Description: Package Specification; ComponentLink3URL: http://www.nxp.com/documents/outline_drawing/sot363_po.pdf
footprint NXP-SOT363_N (SOT23, 6-Leads, Body 2.2x1.35mm, Pitch 0.65mm, IPC Medium Density)
footprint NXP-SOT363_L (SOT23, 6-Leads, Body 2.2x1.35mm, Pitch 0.65mm, IPC High Density)
footprint NXP-SOT363_M (SOT23, 6-Leads, Body 2.2x1.35mm, Pitch 0.65mm, IPC Low Density)
part A pins: 1 S1 "source TR1", 2 G1 "gate TR1", 6 D1 "drain TR1"
part B pins: 3 D2 "drain TR2", 4 S2 "source TR2", 5 G2 "gate TR2"

## NX3008CBKV,115
designator Q?
N/P-Channel Trench MOSFET, 30 / -30 V, 400 / -220 mA, -55 to 150 degC, 6-Pin SOT666, Tape and Reel; Manufacturer: NXP Semiconductors; PartNumber: NX3008CBKV,115; Automotive Qualified: Y; Channel Type: N/P; Packing: Tape & Reel; DatasheetVersion: Rev. 1; PackageVersion: 06-03-16, 03/2006; PackageReference: SOT666; PackageDescription: 6-Pin Small Outline Transistor Package, Body 1.6 x 1.2 mm, Pitch 0.5 mm; Supplier 1: Digi-Key; Supplier Part Number 1: 568-10496-2-ND; Supplier 2: Digi-Key; Supplier Part Number 2: 568-10496-1-ND; Supplier 3: Digi-Key; Supplier Part Number 3: 568-10496-6-ND; Supplier 4: Mouser; Supplier Part Number 4: 771-NX3008CBKV,115; Mounting Technology: Surface Mount; ComponentLink1Description: Manufacturer URL; ComponentLink1URL: http://www.nxp.com/; ComponentLink2Description: Datasheet; ComponentLink2URL: http://www.nxp.com/documents/data_sheet/NX3008CBKV.pdf; ComponentLink3Description: Package Specification; ComponentLink3URL: http://www.nxp.com/documents/outline_drawing/sot666_po.pdf
footprint NXP-SOT666_N (SOT23, 6-Leads, Body 1.7x1.3mm, Pitch 0.5mm, IPC Medium Density)
footprint NXP-SOT666_L (SOT23, 6-Leads, Body 1.7x1.3mm, Pitch 0.5mm, IPC High Density)
footprint NXP-SOT666_M (SOT23, 6-Leads, Body 1.7x1.3mm, Pitch 0.5mm, IPC Low Density)
part A pins: 1 S1 "source TR1", 2 G1 "gate TR1", 6 D1 "drain TR1"
part B pins: 3 D2 "drain TR2", 4 S2 "source TR2", 5 G2 "gate TR2"

## NX3008NBK,215
designator Q?
N-Channel Trench MOSFET, 30 V, 0.4 A, -55 to 150 degC, 3-Pin SOT23, Tape and Reel; Manufacturer: NXP Semiconductors; PartNumber: NX3008NBK,215; Automotive Qualified: Y; Channel Type: N; ID [max] (A): 0.4; IDM [max] (A): 1.6; Packing: Tape & Reel; VDS [max] (V): 30; VGSth [typ] (V): 0.9; DatasheetVersion: Rev. 1; PackageVersion: 06-03-16, 03/2006; PackageReference: SOT23; PackageDescription: 3-Pin Small Outline Transistor Package, Body 2.9 x 1.3 mm, Pitch 0.95 mm; Supplier 1: Digi-Key; Supplier Part Number 1: 568-10406-2-ND; Supplier 2: Digi-Key; Supplier Part Number 2: 568-10406-1-ND; Supplier 3: Digi-Key; Supplier Part Number 3: 568-10406-6-ND; Supplier 4: Mouser; Supplier Part Number 4: 771-NX3008NBK,215; Mounting Technology: Surface Mount; Code_JEDEC: TO-236AB; ComponentLink1Description: Manufacturer URL; ComponentLink1URL: http://www.nxp.com/; ComponentLink2Description: Datasheet; ComponentLink2URL: http://www.nxp.com/documents/data_sheet/NX3008NBK.pdf; ComponentLink3Description: Package Specification; ComponentLink3URL: http://www.nxp.com/documents/outline_drawing/sot023_po.pdf
footprint NXP-SOT23_N (SOT23, 3-Leads, Body 3x1.4mm, Pitch 0.95mm, IPC Medium Density)
footprint NXP-SOT23_L (SOT23, 3-Leads, Body 3x1.4mm, Pitch 0.95mm, IPC High Density)
footprint NXP-SOT23_M (SOT23, 3-Leads, Body 3x1.4mm, Pitch 0.95mm, IPC Low Density)
pins: 1 G "gate", 2 S "source", 3 D "drain"

## NX3008NBKS,115
designator Q?
Dual N-Channel Trench MOSFET, 30 V, 0.35 A, -55 to 150 degC, 6-Pin SOT363, Tape and Reel; Manufacturer: NXP Semiconductors; PartNumber: NX3008NBKS,115; Automotive Qualified: Y; Channel Type: N; ID [max] (A): 0.35; IDM [max] (A): 1.4; Packing: Tape & Reel; VDS [max] (V): 30; VGSth [typ] (V): 0.9; DatasheetVersion: Rev. 1; PackageVersion: 06-03-16, 03/2006; PackageReference: SOT363; PackageDescription: 6-Pin Small Outline Transistor Package, Body 2 x 1.25 mm, Pitch 0.65 mm; Supplier 1: Digi-Key; Supplier Part Number 1: 568-10407-2-ND; Supplier 2: Digi-Key; Supplier Part Number 2: 568-10407-1-ND; Supplier 3: Digi-Key; Supplier Part Number 3: 568-10407-6-ND; Supplier 4: Newark; Supplier Part Number 4: 74T4661; Supplier 5: Mouser; Supplier Part Number 5: 771-NX3008NBKS,115; Mounting Technology: Surface Mount; Code_JEITA: SC-88; ComponentLink1Description: Manufacturer URL; ComponentLink1URL: http://www.nxp.com/; ComponentLink2Description: Datasheet; ComponentLink2URL: http://www.nxp.com/documents/data_sheet/NX3008NBKS.pdf; ComponentLink3Description: Package Specification; ComponentLink3URL: http://www.nxp.com/documents/outline_drawing/sot363_po.pdf
footprint NXP-SOT363_N (SOT23, 6-Leads, Body 2.2x1.35mm, Pitch 0.65mm, IPC Medium Density)
footprint NXP-SOT363_L (SOT23, 6-Leads, Body 2.2x1.35mm, Pitch 0.65mm, IPC High Density)
footprint NXP-SOT363_M (SOT23, 6-Leads, Body 2.2x1.35mm, Pitch 0.65mm, IPC Low Density)
part A pins: 1 S1 "source TR1", 2 G1 "gate TR1", 6 D1 "drain TR1"
part B pins: 3 D2 "drain TR2", 4 S2 "source TR2", 5 G2 "gate TR2"

## NX3008NBKT,115
designator Q?
N-Channel Trench MOSFET, 30 V, 0.35 A, -55 to 150 degC, 3-Pin SOT416, Tape and Reel; Manufacturer: NXP Semiconductors; PartNumber: NX3008NBKT,115; Automotive Qualified: Y; Channel Type: N; ID [max] (A): 0.35; IDM [max] (A): 1.4; Packing: Tape & Reel; VDS [max] (V): 30; VGSth [typ] (V): 0.9; DatasheetVersion: Rev. 1; PackageVersion: 06-03-16, 03/2006; PackageReference: SOT416_B; PackageDescription: 3-Pin Small Outline Transistor Package, Body 1.6 x 0.8 mm, Pitch 0.5 mm; Supplier 1: Digi-Key; Supplier Part Number 1: 568-10497-2-ND; Supplier 2: Digi-Key; Supplier Part Number 2: 568-10497-1-ND; Supplier 3: Digi-Key; Supplier Part Number 3: 568-10497-6-ND; Supplier 4: Mouser; Supplier Part Number 4: 771-NX3008NBKT,115; Mounting Technology: Surface Mount; Code_JEITA: SC-75; ComponentLink1Description: Manufacturer URL; ComponentLink1URL: http://www.nxp.com/; ComponentLink2Description: Datasheet; ComponentLink2URL: http://www.nxp.com/documents/data_sheet/NX3008NBKT.pdf; ComponentLink3Description: Package Specification; ComponentLink3URL: http://www.nxp.com/documents/data_sheet/2N7002PT.pdf
footprint NXP-SOT416_B_N (SOT23, 3-Leads, Body 1.6x0.8mm, Pitch 0.5mm, IPC Medium Density)
footprint NXP-SOT416_B_L (SOT23, 3-Leads, Body 1.6x0.8mm, Pitch 0.5mm, IPC High Density)
footprint NXP-SOT416_B_M (SOT23, 3-Leads, Body 1.6x0.8mm, Pitch 0.5mm, IPC Low Density)
pins: 1 G "gate", 2 S "source", 3 D "drain"

## NX3008NBKV,115
designator Q?
Dual N-Channel Trench MOSFET, 30 V, 0.4 A, -55 to 150 degC, 6-Pin SOT666, Tape and Reel; Manufacturer: NXP Semiconductors; PartNumber: NX3008NBKV,115; Automotive Qualified: Y; Channel Type: N; ID [max] (A): 0.4; IDM [max] (A): 1.6; Packing: Tape & Reel; VDS [max] (V): 30; VGSth [typ] (V): 0.9; DatasheetVersion: Rev. 1; PackageVersion: 06-03-16, 03/2006; PackageReference: SOT666; PackageDescription: 6-Pin Small Outline Transistor Package, Body 1.6 x 1.2 mm, Pitch 0.5 mm; Supplier 1: Digi-Key; Supplier Part Number 1: 568-10315-2-ND; Supplier 2: Digi-Key; Supplier Part Number 2: 568-10315-1-ND; Supplier 3: Digi-Key; Supplier Part Number 3: 568-10315-6-ND; Supplier 4: Mouser; Supplier Part Number 4: 771-NX3008NBKV,115; Mounting Technology: Surface Mount; ComponentLink1Description: Manufacturer URL; ComponentLink1URL: http://www.nxp.com/; ComponentLink2Description: Datasheet; ComponentLink2URL: http://www.nxp.com/documents/data_sheet/NX3008NBKV.pdf; ComponentLink3Description: Package Specification; ComponentLink3URL: http://www.nxp.com/documents/outline_drawing/sot666_po.pdf
footprint NXP-SOT666_N (SOT23, 6-Leads, Body 1.7x1.3mm, Pitch 0.5mm, IPC Medium Density)
footprint NXP-SOT666_L (SOT23, 6-Leads, Body 1.7x1.3mm, Pitch 0.5mm, IPC High Density)
footprint NXP-SOT666_M (SOT23, 6-Leads, Body 1.7x1.3mm, Pitch 0.5mm, IPC Low Density)
part A pins: 1 S1 "source TR1", 2 G1 "gate TR1", 6 D1 "drain TR1"
part B pins: 3 D2 "drain TR2", 4 S2 "source TR2", 5 G2 "gate TR2"

## NX3008NBKW,115
designator Q?
N-Channel Trench MOSFET, 30 V, 0.35 A, -55 to 150 degC, 3-Pin SOT323, Tape and Reel; Manufacturer: NXP Semiconductors; PartNumber: NX3008NBKW,115; Automotive Qualified: Y; Channel Type: N; ID [max] (A): 0.35; IDM [max] (A): 1.4; Packing: Tape & Reel; VDS [max] (V): 30; VGSth [typ] (V): 0.9; DatasheetVersion: Rev. 1; PackageVersion: 06-03-16, 03/2006; PackageReference: SOT323; PackageDescription: 3-Pin Small Outline Transistor Package, Body 2 x 1.25 mm, Pitch 0.65 mm; Supplier 1: Digi-Key; Supplier Part Number 1: 568-10498-2-ND; Supplier 2: Digi-Key; Supplier Part Number 2: 568-10498-1-ND; Supplier 3: Digi-Key; Supplier Part Number 3: 568-10498-6-ND; Supplier 4: Mouser; Supplier Part Number 4: 771-NX3008NBKW,115; Mounting Technology: Surface Mount; Code_JEITA: SC-70; ComponentLink1Description: Manufacturer URL; ComponentLink1URL: http://www.nxp.com/; ComponentLink2Description: Datasheet; ComponentLink2URL: http://www.nxp.com/documents/data_sheet/NX3008NBKW.pdf; ComponentLink3Description: Package Specification; ComponentLink3URL: http://www.nxp.com/documents/outline_drawing/sot323_po.pdf
footprint NXP-SOT323_N (SOT23, 3-Leads, Body 2.2x1.35mm, Pitch 0.65mm, IPC Medium Density)
footprint NXP-SOT323_L (SOT23, 3-Leads, Body 2.2x1.35mm, Pitch 0.65mm, IPC High Density)
footprint NXP-SOT323_M (SOT23, 3-Leads, Body 2.2x1.35mm, Pitch 0.65mm, IPC Low Density)
pins: 1 G "gate", 2 S "source", 3 D "drain"

## NX3008PBK,215
designator Q?
P-Channel Trench MOSFET, -30 V, -0.23 A, -55 to 150 degC, 3-Pin SOT23, Tape and Reel; Manufacturer: NXP Semiconductors; PartNumber: NX3008PBK,215; Automotive Qualified: Y; Channel Type: P; IDM [max] (A): -1; Packing: Tape & Reel; VGSth [typ] (V): -0.9; DatasheetVersion: Rev. 1; PackageVersion: 06-03-16, 03/2006; PackageReference: SOT23; PackageDescription: 3-Pin Small Outline Transistor Package, Body 2.9 x 1.3 mm, Pitch 0.95 mm; Supplier 1: Digi-Key; Supplier Part Number 1: 568-10499-2-ND; Supplier 2: Digi-Key; Supplier Part Number 2: 568-10499-1-ND; Supplier 3: Digi-Key; Supplier Part Number 3: 568-10499-6-ND; Supplier 4: Newark; Supplier Part Number 4: 74T4665; Supplier 5: Mouser; Supplier Part Number 5: 771-NX3008PBK,215; ID [max] (A): -0.23; VDS [max] (V): -30; Mounting Technology: Surface Mount; Code_JEDEC: TO-236AB; ComponentLink1Description: Manufacturer URL; ComponentLink1URL: http://www.nxp.com/; ComponentLink2Description: Datasheet; ComponentLink2URL: http://www.nxp.com/documents/data_sheet/NX3008PBK.pdf; ComponentLink3Description: Package Specification; ComponentLink3URL: http://www.nxp.com/documents/outline_drawing/sot023_po.pdf
footprint NXP-SOT23_N (SOT23, 3-Leads, Body 3x1.4mm, Pitch 0.95mm, IPC Medium Density)
footprint NXP-SOT23_L (SOT23, 3-Leads, Body 3x1.4mm, Pitch 0.95mm, IPC High Density)
footprint NXP-SOT23_M (SOT23, 3-Leads, Body 3x1.4mm, Pitch 0.95mm, IPC Low Density)
pins: 1 G "gate", 2 S "source", 3 D "drain"

## NX3008PBKS,115
designator Q?
Dual P-Channel Trench MOSFET, -30 V, -0.2 A, -55 to 150 degC, 6-Pin SOT363, Tape and Reel; Manufacturer: NXP Semiconductors; PartNumber: NX3008PBKS,115; Automotive Qualified: Y; Channel Type: P; IDM [max] (A): -0.8; Packing: Tape & Reel; VGSth [typ] (V): -0.9; DatasheetVersion: Rev. 1; PackageVersion: 06-03-16, 03/2006; PackageReference: SOT363; PackageDescription: 6-Pin Small Outline Transistor Package, Body 2 x 1.25 mm, Pitch 0.65 mm; Supplier 1: Digi-Key; Supplier Part Number 1: 568-10500-2-ND; Supplier 2: Digi-Key; Supplier Part Number 2: 568-10500-1-ND; Supplier 3: Digi-Key; Supplier Part Number 3: 568-10500-6-ND; Supplier 4: Mouser; Supplier Part Number 4: 771-NX3008PBKS,115; ID [max] (A): -0.2; VDS [max] (V): -30; Mounting Technology: Surface Mount; Code_JEITA: SC-88; ComponentLink1Description: Manufacturer URL; ComponentLink1URL: http://www.nxp.com/; ComponentLink2Description: Datasheet; ComponentLink2URL: http://www.nxp.com/documents/data_sheet/NX3008PBKS.pdf; ComponentLink3Description: Package Specification; ComponentLink3URL: http://www.nxp.com/documents/outline_drawing/sot363_po.pdf
footprint NXP-SOT363_N (SOT23, 6-Leads, Body 2.2x1.35mm, Pitch 0.65mm, IPC Medium Density)
footprint NXP-SOT363_L (SOT23, 6-Leads, Body 2.2x1.35mm, Pitch 0.65mm, IPC High Density)
footprint NXP-SOT363_M (SOT23, 6-Leads, Body 2.2x1.35mm, Pitch 0.65mm, IPC Low Density)
part A pins: 1 S1 "source TR1", 2 G1 "gate TR1", 6 D1 "drain TR1"
part B pins: 3 D2 "drain TR2", 4 S2 "source TR2", 5 G2 "gate TR2"

## NX3008PBKT,115
designator Q?
P-Channel Trench MOSFET, -30 V, -0.2 A, -55 to 150 degC, 3-Pin SOT416, Tape and Reel; Manufacturer: NXP Semiconductors; PartNumber: NX3008PBKT,115; Automotive Qualified: Y; Channel Type: P; IDM [max] (A): -0.9; Packing: Tape & Reel; DatasheetVersion: Rev. 1; PackageVersion: 06-03-16, 03/2006; PackageReference: SOT416_B; PackageDescription: 3-Pin Small Outline Transistor Package, Body 1.6 x 0.8 mm, Pitch 0.5 mm; Supplier 1: Digi-Key; Supplier Part Number 1: 568-10501-2-ND; Supplier 2: Digi-Key; Supplier Part Number 2: 568-10501-1-ND; Supplier 3: Digi-Key; Supplier Part Number 3: 568-10501-6-ND; Supplier 4: Mouser; Supplier Part Number 4: 771-NX3008PBKT,115; ID [max] (A): -0.2; VDS [max] (V): -30; VGSth [typ] (V): -0.9; Mounting Technology: Surface Mount; Code_JEITA: SC-75; ComponentLink1Description: Manufacturer URL; ComponentLink1URL: http://www.nxp.com/; ComponentLink2Description: Datasheet; ComponentLink2URL: http://www.nxp.com/documents/data_sheet/NX3008PBKT.pdf; ComponentLink3Description: Package Specification; ComponentLink3URL: http://www.nxp.com/documents/data_sheet/2N7002PT.pdf
footprint NXP-SOT416_B_N (SOT23, 3-Leads, Body 1.6x0.8mm, Pitch 0.5mm, IPC Medium Density)
footprint NXP-SOT416_B_L (SOT23, 3-Leads, Body 1.6x0.8mm, Pitch 0.5mm, IPC High Density)
footprint NXP-SOT416_B_M (SOT23, 3-Leads, Body 1.6x0.8mm, Pitch 0.5mm, IPC Low Density)
pins: 1 G "gate", 2 S "source", 3 D "drain"

## NX3008PBKV,115
designator Q?
Dual P-Channel Trench MOSFET, -30 V, -0.22 A, -55 to 150 degC, 6-Pin SOT666, Tape and Reel; Manufacturer: NXP Semiconductors; PartNumber: NX3008PBKV,115; Automotive Qualified: Y; Channel Type: P; IDM [max] (A): -0.9; Packing: Tape & Reel; DatasheetVersion: Rev. 1; PackageVersion: 06-03-16, 03/2006; PackageReference: SOT666; PackageDescription: 6-Pin Small Outline Transistor Package, Body 1.6 x 1.2 mm, Pitch 0.5 mm; Supplier 1: Digi-Key; Supplier Part Number 1: 568-10502-2-ND; Supplier 2: Digi-Key; Supplier Part Number 2: 568-10502-1-ND; Supplier 3: Digi-Key; Supplier Part Number 3: 568-10502-6-ND; Supplier 4: Mouser; Supplier Part Number 4: 771-NX3008PBKV,115; ID [max] (A): -0.22; VDS [max] (V): -30; VGSth [typ] (V): -0.9; Mounting Technology: Surface Mount; ComponentLink1Description: Manufacturer URL; ComponentLink1URL: http://www.nxp.com/; ComponentLink2Description: Datasheet; ComponentLink2URL: http://www.nxp.com/documents/data_sheet/NX3008PBKV.pdf; ComponentLink3Description: Package Specification; ComponentLink3URL: http://www.nxp.com/documents/outline_drawing/sot666_po.pdf
footprint NXP-SOT666_N (SOT23, 6-Leads, Body 1.7x1.3mm, Pitch 0.5mm, IPC Medium Density)
footprint NXP-SOT666_L (SOT23, 6-Leads, Body 1.7x1.3mm, Pitch 0.5mm, IPC High Density)
footprint NXP-SOT666_M (SOT23, 6-Leads, Body 1.7x1.3mm, Pitch 0.5mm, IPC Low Density)
part A pins: 1 S1 "source TR1", 2 G1 "gate TR1", 6 D1 "drain TR1"
part B pins: 3 D2 "drain TR2", 4 S2 "source TR2", 5 G2 "gate TR2"

## NX3008PBKW,115
designator Q?
P-Channel Trench MOSFET, -30 V, -0.2 A, -55 to 150 degC, 3-Pin SOT323, Tape and Reel; Manufacturer: NXP Semiconductors; PartNumber: NX3008PBKW,115; Automotive Qualified: Y; Channel Type: P; IDM [max] (A): -0.8; Packing: Tape & Reel; VGSth [typ] (V): -0.9; DatasheetVersion: Rev. 1; PackageVersion: 06-03-16, 03/2006; PackageReference: SOT323; PackageDescription: 3-Pin Small Outline Transistor Package, Body 2 x 1.25 mm, Pitch 0.65 mm; Supplier 1: Digi-Key; Supplier Part Number 1: 568-10503-2-ND; Supplier 2: Digi-Key; Supplier Part Number 2: 568-10503-1-ND; Supplier 3: Digi-Key; Supplier Part Number 3: 568-10503-6-ND; Supplier 4: Mouser; Supplier Part Number 4: 771-NX3008PBKW,115; ID [max] (A): -0.2; VDS [max] (V): -30; Mounting Technology: Surface Mount; Code_JEITA: SC-70; ComponentLink1Description: Manufacturer URL; ComponentLink1URL: http://www.nxp.com/; ComponentLink2Description: Datasheet; ComponentLink2URL: http://www.nxp.com/documents/data_sheet/NX3008PBKW.pdf; ComponentLink3Description: Package Specification; ComponentLink3URL: http://www.nxp.com/documents/outline_drawing/sot323_po.pdf
footprint NXP-SOT323_N (SOT23, 3-Leads, Body 2.2x1.35mm, Pitch 0.65mm, IPC Medium Density)
footprint NXP-SOT323_L (SOT23, 3-Leads, Body 2.2x1.35mm, Pitch 0.65mm, IPC High Density)
footprint NXP-SOT323_M (SOT23, 3-Leads, Body 2.2x1.35mm, Pitch 0.65mm, IPC Low Density)
pins: 1 G "gate", 2 S "source", 3 D "drain"